# Altium footprint library IC74HC595_PCB.PcbLib: 1 footprints
Each footprint in its own frame and in the unit in brackets; x right, y up, seen from the top. Pads: shape width x height; smd on the part's side, far side on the other; paste and mask are expansions set on the pad; w line width, h text height; cw(c..) or ccw(c..) is an arc to the next point about the centre after c.
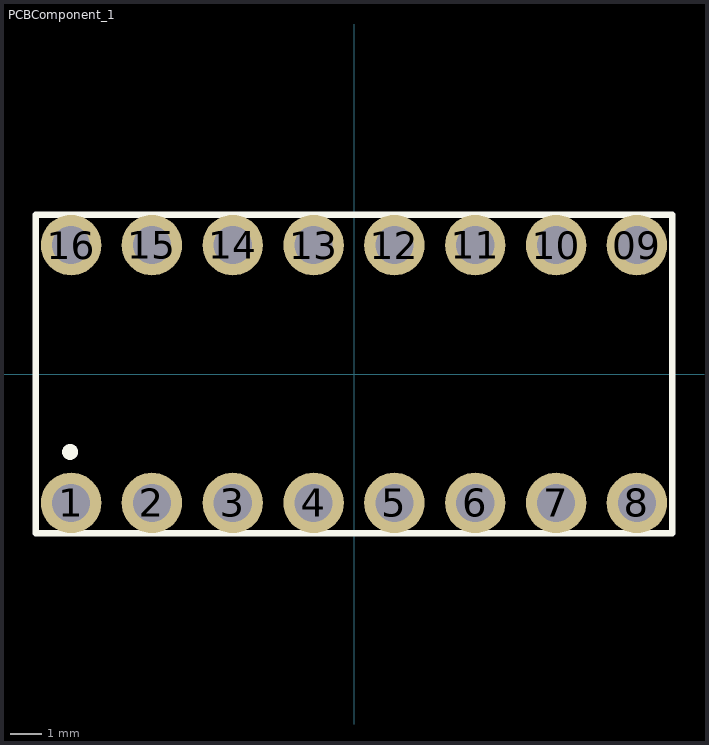
[diagram p0: the footprint, top view; thin cyan lines are the x and y axes]

## PCBComponent_1 [mm]
pads (16):
  round 1.9 hole 1.2: 1(-8.89,-4.05) 2(-6.35,-4.05) 3(-3.81,-4.05) 4(-1.27,-4.05) 5(1.27,-4.05) 6(3.81,-4.05) 7(6.35,-4.05) 8(8.89,-4.05) 09(8.89,4.05) 10(6.35,4.05) 11(3.81,4.05) 12(1.27,4.05) 13(-1.27,4.05) 14(-3.81,4.05) 15(-6.35,4.05) 16(-8.89,4.05)
Top Overlay:
  circle w0.3: c-8.925,-2.45 r0.1
  lines w0.2: -10,-5 -10,0 -10,5 10,5 10,-5 -10,-5
3D body "sn74hc595n.stp": height 5.06, standoff -3.33, extent -9.652,-4.629 9.652,4.449